# Altium footprint library MCU.PcbLib: 52 footprints (part 2 of 4)
Each footprint in its own frame and in the unit in brackets; x right, y up, seen from the top. Pads: shape width x height; smd on the part's side, far side on the other; paste and mask are expansions set on the pad; w line width, h text height; cw(c..) or ccw(c..) is an arc to the next point about the centre after c.
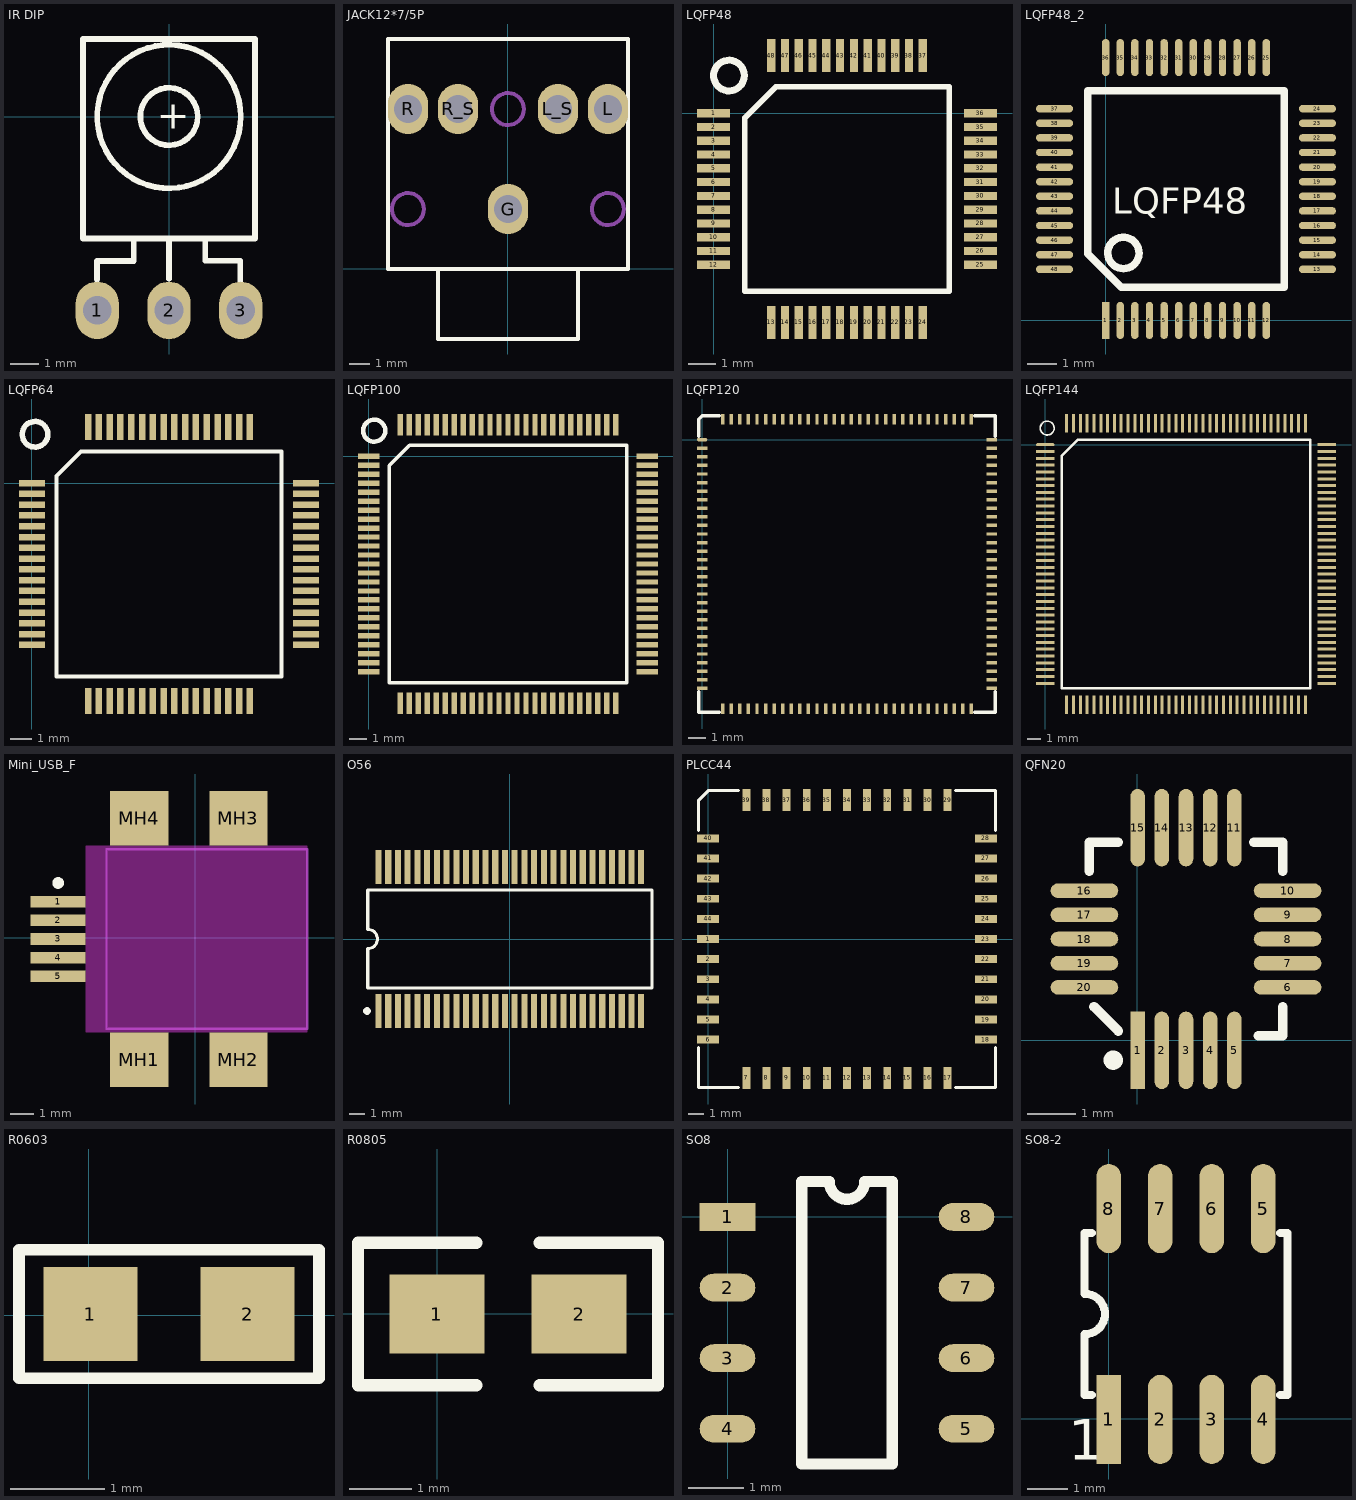
[diagram p1: the footprints below, top view; thin cyan lines are the x and y axes]

## IR DIP [mm]
pads (3):
  oval 1.5x2 hole 1: 1(-2.503,-6.744) 2(-0.003,-6.744) 3(2.497,-6.744)
Top Overlay:
  circle w0.2: c-0.003,0.006 r1
  circle w0.2: c-0.003,0.006 r2.5
  lines w0.203: -3.003,-4.244 -3.003,2.706 2.997,2.706 ; -3,-4.248 2.993,-4.248 2.993,2.707 ; -2.506,-5.67 -2.506,-5.026 -1.232,-5.026 -1.232,-4.265 ; 0.002,-5.643 0.002,-4.286 ; 1.262,-4.265 1.262,-5.019 2.482,-5.019 2.482,-5.732
  text "+" at -0.433,-0.425 h1

## JACK12*7/5P [mm]
pads (5):
  oval 2x2.5 hole 1.4: G(0.005,2.991) L(5.005,7.991) L_S(2.505,7.991) R(-4.995,7.991) R_S(-2.495,7.991)
Top Overlay:
  lines w0.2: -3.495,-0.009 -3.495,-3.509 3.505,-3.509 3.505,-0.009 ; -5.995,-0.009 -5.995,11.491 6.005,11.491 6.005,-0.009 -5.995,-0.009
Mechanical 1:
  circle w0.2: c-0.001,7.988 r0.8
  circle w0.2: c4.999,2.988 r0.8
  circle w0.2: c-5.001,2.988 r0.8

## LQFP48 [mm]
pads (48):
  rect 1.2x0.3 smd: 1(0,0) 2(0,-0.5) 3(0,-1) 4(0,-1.5) 5(0,-2) 6(0,-2.5) 7(0,-3) 8(0,-3.5) 9(0,-4) 10(0,-4.5) 11(0,-5) 12(0,-5.5) 25(9.7,-5.5) 26(9.7,-5) 27(9.7,-4.5) 28(9.7,-4) 29(9.7,-3.5) 30(9.7,-3) 31(9.7,-2.5) 32(9.7,-2) 33(9.7,-1.5) 34(9.7,-1) 35(9.7,-0.5) 36(9.7,0)
  rect 0.3x1.2 smd: 13(2.1,-7.6) 14(2.6,-7.6) 15(3.1,-7.6) 16(3.6,-7.6) 17(4.1,-7.6) 18(4.6,-7.6) 19(5.1,-7.6) 20(5.6,-7.6) 21(6.1,-7.6) 22(6.6,-7.6) 23(7.1,-7.6) 24(7.6,-7.6) 37(7.6,2.1) 38(7.1,2.1) 39(6.6,2.1) 40(6.1,2.1) 41(5.6,2.1) 42(5.1,2.1) 43(4.6,2.1) 44(4.1,2.1) 45(3.6,2.1) 46(3.1,2.1) 47(2.6,2.1) 48(2.1,2.1)
Top Overlay:
  circle w0.254: c0.561,1.372 r0.557
  lines w0.2: 1.135,-6.465 8.565,-6.465 8.565,0.965 2.27,0.965 1.135,-0.17 1.135,-6.465

## LQFP48_2 [mm]
height 7
pads (48):
  rect 0.254x1.27 smd: 1(0,0)
  oval 0.254x1.27 smd: 2(0.5,0) 3(1,0) 4(1.5,0) 5(2,0) 6(2.5,0) 7(3,0) 8(3.5,0) 9(4,0) 10(4.5,0) 11(5,0) 12(5.5,0) 25(5.5,9) 26(5,9) 27(4.5,9) 28(4,9) 29(3.5,9) 30(3,9) 31(2.5,9) 32(2,9) 33(1.5,9) 34(1,9) 35(0.5,9) 36(0,9)
  oval 1.27x0.254 smd: 13(7.25,1.75) 14(7.25,2.25) 15(7.25,2.75) 16(7.25,3.25) 17(7.25,3.75) 18(7.25,4.25) 19(7.25,4.75) 20(7.25,5.25) 21(7.25,5.75) 22(7.25,6.25) 23(7.25,6.75) 24(7.25,7.25) 37(-1.75,7.25) 38(-1.75,6.75) 39(-1.75,6.25) 40(-1.75,5.75) 41(-1.75,5.25) 42(-1.75,4.75) 43(-1.75,4.25) 44(-1.75,3.75) 45(-1.75,3.25) 46(-1.75,2.75) 47(-1.75,2.25) 48(-1.75,1.75)
Top Overlay:
  lines w0.254: 0.471,2.829 ccw(c0.607,2.311) 0.559,2.845 ; -0.607,2.286 -0.607,7.857 6.107,7.857 6.107,1.143 0.536,1.143 -0.607,2.286
  text "LQFP48" at 0.23,3.658 h0.89

## LQFP64 [mm]
pads (64):
  rect 1.2x0.3 smd: 1(0,0) 2(0,-0.5) 3(0,-1) 4(0,-1.5) 5(0,-2) 6(0,-2.5) 7(0,-3) 8(0,-3.5) 9(0,-4) 10(0,-4.5) 11(0,-5) 12(0,-5.5) 13(0,-6) 14(0,-6.5) 15(0,-7) 16(0,-7.5) 33(12.7,-7.5) 34(12.7,-7) 35(12.7,-6.5) 36(12.7,-6) 37(12.7,-5.5) 38(12.7,-5) 39(12.7,-4.5) 40(12.7,-4) 41(12.7,-3.5) 42(12.7,-3) 43(12.7,-2.5) 44(12.7,-2) 45(12.7,-1.5) 46(12.7,-1) 47(12.7,-0.5) 48(12.7,0)
  rect 0.3x1.2 smd: 17(2.6,-10.1) 18(3.1,-10.1) 19(3.6,-10.1) 20(4.1,-10.1) 21(4.6,-10.1) 22(5.1,-10.1) 23(5.6,-10.1) 24(6.1,-10.1) 25(6.6,-10.1) 26(7.1,-10.1) 27(7.6,-10.1) 28(8.1,-10.1) 29(8.6,-10.1) 30(9.1,-10.1) 31(9.6,-10.1) 32(10.1,-10.1) 49(10.1,2.6) 50(9.6,2.6) 51(9.1,2.6) 52(8.6,2.6) 53(8.1,2.6) 54(7.6,2.6) 55(7.1,2.6) 56(6.6,2.6) 57(6.1,2.6) 58(5.6,2.6) 59(5.1,2.6) 60(4.6,2.6) 61(4.1,2.6) 62(3.6,2.6) 63(3.1,2.6) 64(2.6,2.6)
Top Overlay:
  circle w0.254: c0.144,2.261 r0.593
  lines w0.2: 1.135,-8.965 1.135,0.33 2.27,1.465 11.565,1.465 11.565,-8.965 1.135,-8.965

## LQFP100 [mm]
pads (100):
  rect 1.2x0.3 smd: 1(0,0) 2(0,-0.5) 3(0,-1) 4(0,-1.5) 5(0,-2) 6(0,-2.5) 7(0,-3) 8(0,-3.5) 9(0,-4) 10(0,-4.5) 11(0,-5) 12(0,-5.5) 13(0,-6) 14(0,-6.5) 15(0,-7) 16(0,-7.5) 17(0,-8) 18(0,-8.5) 19(0,-9) 20(0,-9.5) 21(0,-10) 22(0,-10.5) 23(0,-11) 24(0,-11.5) 25(0,-12) 51(15.5,-12) 52(15.5,-11.5) 53(15.5,-11) 54(15.5,-10.5) 55(15.5,-10) 56(15.5,-9.5) 57(15.5,-9) 58(15.5,-8.5) 59(15.5,-8) 60(15.5,-7.5) 61(15.5,-7) 62(15.5,-6.5) 63(15.5,-6) 64(15.5,-5.5) 65(15.5,-5) 66(15.5,-4.5) 67(15.5,-4) 68(15.5,-3.5) 69(15.5,-3) 70(15.5,-2.5) 71(15.5,-2) 72(15.5,-1.5) 73(15.5,-1) 74(15.5,-0.5) 75(15.5,0)
  rect 0.3x1.2 smd: 26(1.75,-13.75) 27(2.25,-13.75) 28(2.75,-13.75) 29(3.25,-13.75) 30(3.75,-13.75) 31(4.25,-13.75) 32(4.75,-13.75) 33(5.25,-13.75) 34(5.75,-13.75) 35(6.25,-13.75) 36(6.75,-13.75) 37(7.25,-13.75) 38(7.75,-13.75) 39(8.25,-13.75) 40(8.75,-13.75) 41(9.25,-13.75) 42(9.75,-13.75) 43(10.25,-13.75) 44(10.75,-13.75) 45(11.25,-13.75) 46(11.75,-13.75) 47(12.25,-13.75) 48(12.75,-13.75) 49(13.25,-13.75) 50(13.75,-13.75) 76(13.75,1.75) 77(13.25,1.75) 78(12.75,1.75) 79(12.25,1.75) 80(11.75,1.75) 81(11.25,1.75) 82(10.75,1.75) 83(10.25,1.75) 84(9.75,1.75) 85(9.25,1.75) 86(8.75,1.75) 87(8.25,1.75) 88(7.75,1.75) 89(7.25,1.75) 90(6.75,1.75) 91(6.25,1.75) 92(5.75,1.75) 93(5.25,1.75) 94(4.75,1.75) 95(4.25,1.75) 96(3.75,1.75) 97(3.25,1.75) 98(2.75,1.75) 99(2.25,1.75) 100(1.75,1.75)
Top Overlay:
  circle w0.254: c0.3,1.422 r0.615
  lines w0.2: 1.135,-12.615 14.365,-12.615 14.365,0.615 2.27,0.615 1.135,-0.52 1.135,-12.615

## LQFP120 [mm]
pads (120):
  oval 0.6x0.2 smd: 1(0,0)
  rect 0.6x0.2 smd: 2(0,-0.5) 3(0,-1) 4(0,-1.5) 5(0,-2) 6(0,-2.5) 7(0,-3) 8(0,-3.5) 9(0,-4) 10(0,-4.5) 11(0,-5) 12(0,-5.5) 13(0,-6) 14(0,-6.5) 15(0,-7) 16(0,-7.5) 17(0,-8) 18(0,-8.5) 19(0,-9) 20(0,-9.5) 21(0,-10) 22(0,-10.5) 23(0,-11) 24(0,-11.5) 25(0,-12) 26(0,-12.5) 27(0,-13) 28(0,-13.5) 29(0,-14) 30(0,-14.5) 61(16.9,-14.5) 62(16.9,-14) 63(16.9,-13.5) 64(16.9,-13) 65(16.9,-12.5) 66(16.9,-12) 67(16.9,-11.5) 68(16.9,-11) 69(16.9,-10.5) 70(16.9,-10) 71(16.9,-9.5) 72(16.9,-9) 73(16.9,-8.5) 74(16.9,-8) 75(16.9,-7.5) 76(16.9,-7) 77(16.9,-6.5) 78(16.9,-6) 79(16.9,-5.5) 80(16.9,-5) 81(16.9,-4.5) 82(16.9,-4) 83(16.9,-3.5) 84(16.9,-3) 85(16.9,-2.5) 86(16.9,-2) 87(16.9,-1.5) 88(16.9,-1) 89(16.9,-0.5) 90(16.9,0)
  rect 0.2x0.6 smd: 31(1.2,-15.7) 32(1.7,-15.7) 33(2.2,-15.7) 34(2.7,-15.7) 35(3.2,-15.7) 36(3.7,-15.7) 37(4.2,-15.7) 38(4.7,-15.7) 39(5.2,-15.7) 40(5.7,-15.7) 41(6.2,-15.7) 42(6.7,-15.7) 43(7.2,-15.7) 44(7.7,-15.7) 45(8.2,-15.7) 46(8.7,-15.7) 47(9.2,-15.7) 48(9.7,-15.7) 49(10.2,-15.7) 50(10.7,-15.7) 51(11.2,-15.7) 52(11.7,-15.7) 53(12.2,-15.7) 54(12.7,-15.7) 55(13.2,-15.7) 56(13.7,-15.7) 57(14.2,-15.7) 58(14.7,-15.7) 59(15.2,-15.7) 60(15.7,-15.7) 91(15.7,1.2) 92(15.2,1.2) 93(14.7,1.2) 94(14.2,1.2) 95(13.7,1.2) 96(13.2,1.2) 97(12.7,1.2) 98(12.2,1.2) 99(11.7,1.2) 100(11.2,1.2) 101(10.7,1.2) 102(10.2,1.2) 103(9.7,1.2) 104(9.2,1.2) 105(8.7,1.2) 106(8.2,1.2) 107(7.7,1.2) 108(7.2,1.2) 109(6.7,1.2) 110(6.2,1.2) 111(5.7,1.2) 112(5.2,1.2) 113(4.7,1.2) 114(4.2,1.2) 115(3.7,1.2) 116(3.2,1.2) 117(2.7,1.2) 118(2.2,1.2) 119(1.7,1.2) 120(1.2,1.2)
Top Overlay:
  lines w0.2: -0.2,-14.7 -0.2,-15.9 1,-15.9 ; -0.2,0.2 -0.2,1.2 0,1.4 1,1.4 ; 15.9,-15.9 17.1,-15.9 17.1,-14.7 ; 15.9,1.4 17.1,1.4 17.1,0.2

## LQFP144 [mm]
pads (144):
  oval 1.35x0.22 smd: 1(0,0)
  rect 1.35x0.22 smd: 2(0,-0.5) 3(0,-1) 4(0,-1.5) 5(0,-2) 6(0,-2.5) 7(0,-3) 8(0,-3.5) 9(0,-4) 10(0,-4.5) 11(0,-5) 12(0,-5.5) 13(0,-6) 14(0,-6.5) 15(0,-7) 16(0,-7.5) 17(0,-8) 18(0,-8.5) 19(0,-9) 20(0,-9.5) 21(0,-10) 22(0,-10.5) 23(0,-11) 24(0,-11.5) 25(0,-12) 26(0,-12.5) 27(0,-13) 28(0,-13.5) 29(0,-14) 30(0,-14.5) 31(0,-15) 32(0,-15.5) 33(0,-16) 34(0,-16.5) 35(0,-17) 36(0,-17.5) 73(20.65,-17.5) 74(20.65,-17) 75(20.65,-16.5) 76(20.65,-16) 77(20.65,-15.5) 78(20.65,-15) 79(20.65,-14.5) 80(20.65,-14) 81(20.65,-13.5) 82(20.65,-13) 83(20.65,-12.5) 84(20.65,-12) 85(20.65,-11.5) 86(20.65,-11) 87(20.65,-10.5) 88(20.65,-10) 89(20.65,-9.5) 90(20.65,-9) 91(20.65,-8.5) 92(20.65,-8) 93(20.65,-7.5) 94(20.65,-7) 95(20.65,-6.5) 96(20.65,-6) 97(20.65,-5.5) 98(20.65,-5) 99(20.65,-4.5) 100(20.65,-4) 101(20.65,-3.5) 102(20.65,-3) 103(20.65,-2.5) 104(20.65,-2) 105(20.65,-1.5) 106(20.65,-1) 107(20.65,-0.5) 108(20.65,0)
  rect 0.22x1.35 smd: 37(1.575,-19.075) 38(2.075,-19.075) 39(2.575,-19.075) 40(3.075,-19.075) 41(3.575,-19.075) 42(4.075,-19.075) 43(4.575,-19.075) 44(5.075,-19.075) 45(5.575,-19.075) 46(6.075,-19.075) 47(6.575,-19.075) 48(7.075,-19.075) 49(7.575,-19.075) 50(8.075,-19.075) 51(8.575,-19.075) 52(9.075,-19.075) 53(9.575,-19.075) 54(10.075,-19.075) 55(10.575,-19.075) 56(11.075,-19.075) 57(11.575,-19.075) 58(12.075,-19.075) 59(12.575,-19.075) 60(13.075,-19.075) 61(13.575,-19.075) 62(14.075,-19.075) 63(14.575,-19.075) 64(15.075,-19.075) 65(15.575,-19.075) 66(16.075,-19.075) 67(16.575,-19.075) 68(17.075,-19.075) 69(17.575,-19.075) 70(18.075,-19.075) 71(18.575,-19.075) 72(19.075,-19.075) 109(19.075,1.575) 110(18.575,1.575) 111(18.075,1.575) 112(17.575,1.575) 113(17.075,1.575) 114(16.575,1.575) 115(16.075,1.575) 116(15.575,1.575) 117(15.075,1.575) 118(14.575,1.575) 119(14.075,1.575) 120(13.575,1.575) 121(13.075,1.575) 122(12.575,1.575) 123(12.075,1.575) 124(11.575,1.575) 125(11.075,1.575) 126(10.575,1.575) 127(10.075,1.575) 128(9.575,1.575) 129(9.075,1.575) 130(8.575,1.575) 131(8.075,1.575) 132(7.575,1.575) 133(7.075,1.575) 134(6.575,1.575) 135(6.075,1.575) 136(5.575,1.575) 137(5.075,1.575) 138(4.575,1.575) 139(4.075,1.575) 140(3.575,1.575) 141(3.075,1.575) 142(2.575,1.575) 143(2.075,1.575) 144(1.575,1.575)
Top Overlay:
  circle w0.127: c0.152,1.219 r0.508
  lines w0.2: 1.21,-17.865 19.44,-17.865 19.44,0.365 2.42,0.365 1.21,-0.845 1.21,-17.865

## Mini_USB_F [mm]
pads (9):
  rect 2.35x0.5 smd: 1(-5.884,1.552) 2(-5.885,0.752) 3(-5.885,-0.048) 4(-5.885,-0.848) 5(-5.885,-1.648)
  rect 2.5x2.35 smd: MH1(-2.41,-5.223) MH2(1.84,-5.223) MH3(1.84,5.127) MH4(-2.41,5.127)
Top Overlay:
  circle w0.25: c-5.885,2.352 r0.125
Keep-Out Layer:
  rectangle: -4.709,-4.048 4.791,3.952
Mechanical 13:
  lines w0.1: -3.81,-3.898 4.791,-3.898 4.791,3.802 -3.81,3.802 -3.81,-3.898
3D body: height 0.65, standoff -3.25, extent -3.821,-3.886 4.778,3.813

## O56 [mm] "SSOP; 56 Leads; Body Width 7.5 mm; Pitch 0.635 mm"
height 2.8
pads (56):
  rect 0.4x2.2 smd: 1(-8.572,-4.7) 2(-7.938,-4.7) 3(-7.302,-4.7) 4(-6.667,-4.7) 5(-6.032,-4.7) 6(-5.397,-4.7) 7(-4.763,-4.7) 8(-4.127,-4.7) 9(-3.492,-4.7) 10(-2.857,-4.7) 11(-2.222,-4.7) 12(-1.587,-4.7) 13(-0.953,-4.7) 14(-0.318,-4.7) 15(0.318,-4.7) 16(0.953,-4.7) 17(1.587,-4.7) 18(2.222,-4.7) 19(2.857,-4.7) 20(3.492,-4.7) 21(4.127,-4.7) 22(4.763,-4.7) 23(5.397,-4.7) 24(6.032,-4.7) 25(6.667,-4.7) 26(7.302,-4.7) 27(7.938,-4.7) 28(8.572,-4.7) 29(8.572,4.7) 30(7.938,4.7) 31(7.302,4.7) 32(6.667,4.7) 33(6.032,4.7) 34(5.397,4.7) 35(4.763,4.7) 36(4.127,4.7) 37(3.492,4.7) 38(2.857,4.7) 39(2.222,4.7) 40(1.587,4.7) 41(0.953,4.7) 42(0.318,4.7) 43(-0.318,4.7) 44(-0.953,4.7) 45(-1.587,4.7) 46(-2.222,4.7) 47(-2.857,4.7) 48(-3.492,4.7) 49(-4.127,4.7) 50(-4.763,4.7) 51(-5.397,4.7) 52(-6.032,4.7) 53(-6.667,4.7) 54(-7.302,4.7) 55(-7.938,4.7) 56(-8.572,4.7)
Top Overlay:
  circle w0.25: c-9.323,-4.7 r0.125
  lines w0.2: -9.275,-3.2 9.275,-3.2 9.275,3.2 -9.275,3.2 -9.275,0.635 cw(c-9.275,0) -9.275,-0.635 -9.275,-3.2

## PLCC44 [mm]
pads (44):
  rect 1.4x0.5 smd: 1(0,0) 2(0,-1.27) 3(0,-2.54) 4(0,-3.81) 5(0,-5.08) 6(0,-6.35) 18(17.52,-6.35) 19(17.52,-5.08) 20(17.52,-3.81) 21(17.52,-2.54) 22(17.52,-1.27) 23(17.52,0) 24(17.52,1.27) 25(17.52,2.54) 26(17.52,3.81) 27(17.52,5.08) 28(17.52,6.35) 40(0,6.35) 41(0,5.08) 42(0,3.81) 43(0,2.54) 44(0,1.27)
  rect 0.5x1.4 smd: 7(2.41,-8.76) 8(3.68,-8.76) 9(4.95,-8.76) 10(6.22,-8.76) 11(7.49,-8.76) 12(8.76,-8.76) 13(10.03,-8.76) 14(11.3,-8.76) 15(12.57,-8.76) 16(13.84,-8.76) 17(15.11,-8.76) 29(15.11,8.76) 30(13.84,8.76) 31(12.57,8.76) 32(11.3,8.76) 33(10.03,8.76) 34(8.76,8.76) 35(7.49,8.76) 36(6.22,8.76) 37(4.95,8.76) 38(3.68,8.76) 39(2.41,8.76)
Top Overlay:
  lines w0.2: -0.6,-6.85 -0.6,-9.36 1.91,-9.36 ; -0.6,6.85 -0.6,8.76 0,9.36 1.91,9.36 ; 15.61,-9.36 18.12,-9.36 18.12,-6.85 ; 15.61,9.36 18.12,9.36 18.12,6.85

## QFN20 [mm]
pads (20):
  rect 0.3x1.6 smd: 1(0.006,-0.212)
  oval 0.3x1.6 smd: 2(0.506,-0.212) 3(1.006,-0.212) 4(1.506,-0.212) 5(2.006,-0.212) 11(2.006,4.388) 12(1.506,4.388) 13(1.006,4.388) 14(0.506,4.388) 15(0.006,4.388)
  oval 1.4x0.3 smd: 6(3.106,1.088) 7(3.106,1.588) 8(3.106,2.088) 9(3.106,2.588) 10(3.106,3.088) 16(-1.094,3.088) 17(-1.094,2.588) 18(-1.094,2.088) 19(-1.094,1.588) 20(-1.094,1.088)
Top Overlay:
  circle w0.2: c-0.498,-0.415 r0.1
  lines w0.2: -0.994,3.488 -0.994,4.088 -0.394,4.088 ; -0.894,0.688 -0.394,0.188 ; 2.406,4.088 3.006,4.088 3.006,3.488 ; 2.507,0.088 3.006,0.088 3.006,0.688

## R0603 [mm]
pads (2):
  rect 1x1 smd: 1(0.018,0.016) 2(1.694,0.016)
Top Overlay:
  lines w0.127: -0.744,-0.67 -0.744,0.701 2.456,0.701 2.456,-0.67 -0.744,-0.67

## R0805 [mil]
pads (2):
  rect 60x50 smd: 1(-0.13,-0.22) 2(89.87,-0.22)
Top Overlay:
  lines w7.87: 24.87,-45.22 -50.13,-45.22 -50.13,44.78 24.87,44.78 ; 64.87,-45.22 139.87,-45.22 139.87,44.78 64.87,44.78

## SO8 [mm]
pads (8):
  rect 1x0.5 smd: 1(0,0)
  oval 1x0.5 smd: 2(0,-1.27) 3(0,-2.54) 4(0,-3.81) 5(4.3,-3.81) 6(4.3,-2.54) 7(4.3,-1.27) 8(4.3,0)
Top Overlay:
  lines w0.2: 1.335,-4.445 1.335,0.635 1.832,0.635 ccw(c2.15,0.635) 2.467,0.635 2.965,0.635 2.965,-4.445 1.335,-4.445

## SO8-2 [mm]
pads (8):
  rect 0.6x2.2 smd: 1(-0.004,-0.014)
  oval 0.6x2.2 smd: 2(1.266,-0.014) 3(2.536,-0.014) 4(3.806,-0.014) 5(3.806,5.186) 6(2.536,5.186) 7(1.266,5.186) 8(-0.004,5.186)
Top Overlay:
  lines w0.2: -0.424,0.586 -0.599,0.586 -0.599,2.086 ccw(c-0.599,2.586) -0.599,3.086 -0.599,4.586 -0.424,4.586 ; 4.226,0.586 4.401,0.586 4.401,4.586 4.226,4.586
  text "1" at -1.004,-1.014 h1